# Altium footprint library Misc.DIP.PcbLib: 9 footprints
Each footprint in its own frame and in the unit in brackets; x right, y up, seen from the top. Pads: shape width x height; smd on the part's side, far side on the other; paste and mask are expansions set on the pad; w line width, h text height; cw(c..) or ccw(c..) is an arc to the next point about the centre after c.
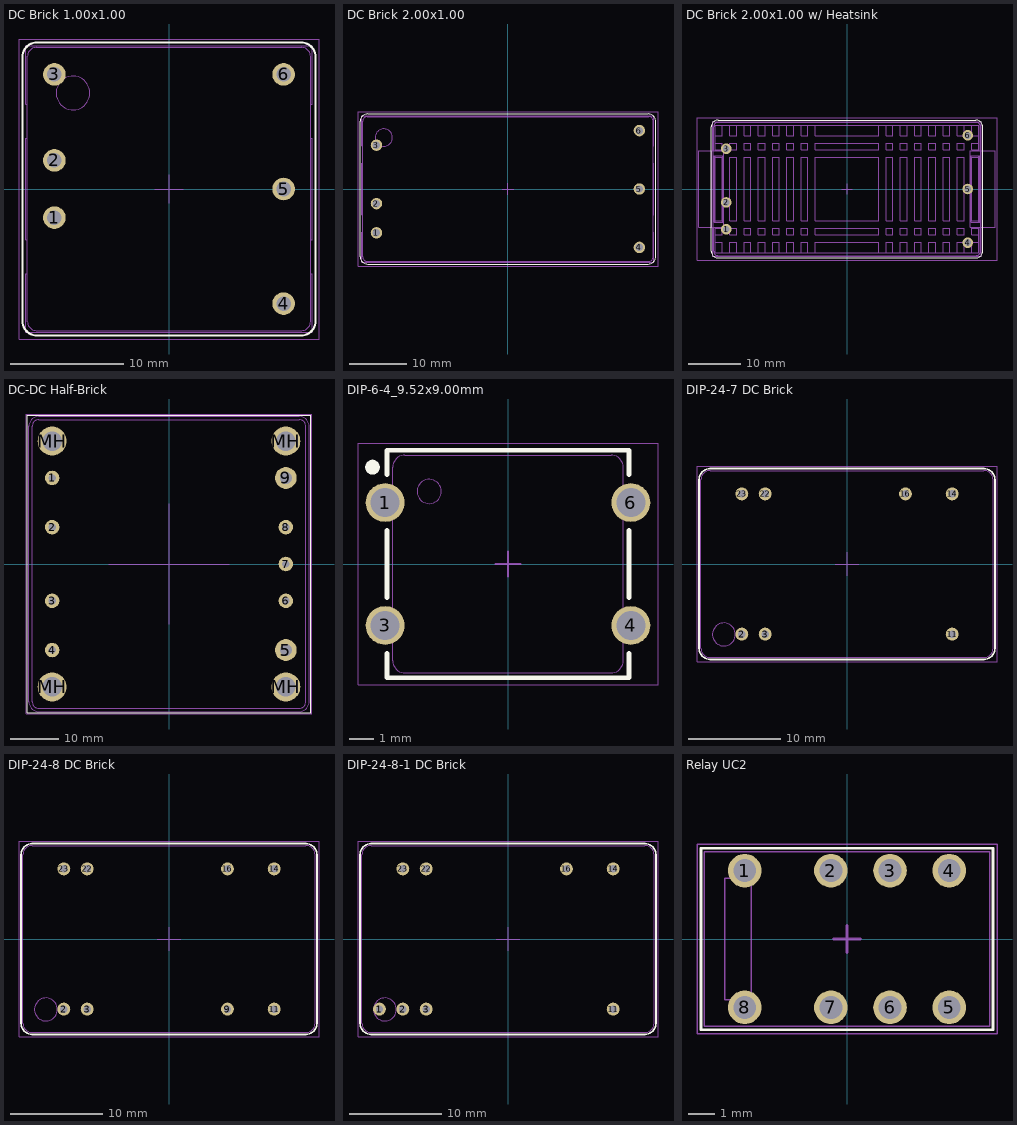
[diagram p0: the footprints below, top view; thin cyan lines are the x and y axes]

## DC Brick 1.00x1.00 [mm] "DC Brick, 25.4x25.4mm, 6-Leads"
height 9.9
pads (6):
  round 2 hole 1.3: 1(-10.16,-2.54) 2(-10.16,2.54) 3(-10.16,10.16) 4(10.16,-10.16) 5(10.16,0) 6(10.16,10.16)
Top Overlay:
  lines w0.2: -13,-11.7 ccw(c-11.7,-11.7) -11.7,-13 11.7,-13 ccw(c11.7,-11.7) 13,-11.7 13,11.7 ccw(c11.7,11.7) 11.7,13 -11.7,13 ccw(c-11.7,11.7) -13,11.7 -13,-11.7
Mechanical 1:
  circle w0.05: c-8.514,8.514 r1.5
  lines w0.05: -12.55,-7.5 -12.7,-7.5 -12.7,-12.7 12.7,-12.7 12.7,-7.5 12.55,-7.5 ; -12.55,-4.5 -12.7,-4.5 -12.7,4.5 -12.55,4.5 ; -12.55,7.5 -12.7,7.5 -12.7,12.7 12.7,12.7 12.7,7.5 12.55,7.5 ; 12.55,-4.5 12.7,-4.5 12.7,4.5 12.55,4.5 ; -12.55,-11.75 ccw(c-11.75,-11.75) -11.75,-12.55 11.75,-12.55 ccw(c11.75,-11.75) 12.55,-11.75 12.55,11.75 ccw(c11.75,11.75) 11.75,12.55 -11.75,12.55 ccw(c-11.75,11.75) -12.55,11.75 -12.55,-11.75
Mechanical 15:
  lines w0.05: -13.3,-13.3 -13.3,13.3 13.3,13.3 13.3,-13.3 -13.3,-13.3
  lines w0.1: -1.25,0 1.25,0 ; 0,-1.25 0,1.25
3D body "DC_Brick_1.00x1.00_6-Leads.STEP": height 9.9, standoff -5.6, extent -12.7,-12.7 12.7,12.7

## DC Brick 2.00x1.00 [mm] "DC Brick, 50.8x25.4mm, 6-Leads"
height 10.2
pads (6):
  round 2 hole 1.3: 1(-22.86,-7.62) 2(-22.86,-2.54) 3(-22.86,7.62) 4(22.86,-10.16) 5(22.86,0) 6(22.86,10.16)
Top Overlay:
  lines w0.2: -25.7,-11.75 ccw(c-24.4,-11.75) -24.4,-13.05 24.4,-13.05 ccw(c24.4,-11.75) 25.7,-11.75 25.7,11.75 ccw(c24.4,11.75) 24.4,13.05 -24.4,13.05 ccw(c-24.4,11.75) -25.7,11.75 -25.7,-11.75
Mechanical 1:
  circle w0.05: c-21.6,8.95 r1.5
  lines w0.05: -25.25,-7.5 -25.4,-7.5 -25.4,-12.7 25.4,-12.7 25.4,-7.5 25.25,-7.5 ; -25.25,-4.5 -25.4,-4.5 -25.4,4.5 -25.25,4.5 ; -25.25,7.5 -25.4,7.5 -25.4,12.7 25.4,12.7 25.4,7.5 25.25,7.5 ; 25.25,-4.5 25.4,-4.5 25.4,4.5 25.25,4.5 ; -25.25,-11.8 ccw(c-24.45,-11.8) -24.45,-12.6 24.45,-12.6 ccw(c24.45,-11.8) 25.25,-11.8 25.25,11.8 ccw(c24.45,11.8) 24.45,12.6 -24.45,12.6 ccw(c-24.45,11.8) -25.25,11.8 -25.25,-11.8
Mechanical 15:
  lines w0.05: -26.075,-13.45 26.1,-13.45 26.1,13.45 -26.075,13.45 -26.075,-13.45
  lines w0.1: -1,0 1,0 ; 0,-1 0,1
3D body "DC_Brick_2.00x1.00_6-Leads.STEP": height 10.2, standoff -5.6, extent -25.4,-12.7 25.4,12.7

## DC Brick 2.00x1.00 w/ Heatsink [mm] "DC Brick, 50.8x25.4mm, 6-Leads"
height 10.2
pads (6):
  round 2 hole 1.3: 1(-22.86,-7.62) 2(-22.86,-2.54) 3(-22.86,7.62) 4(22.86,-10.16) 5(22.86,0) 6(22.86,10.16)
Top Overlay:
  lines w0.2: -25.7,-11.75 ccw(c-24.4,-11.75) -24.4,-13.05 24.4,-13.05 ccw(c24.4,-11.75) 25.7,-11.75 25.7,11.75 ccw(c24.4,11.75) 24.4,13.05 -24.4,13.05 ccw(c-24.4,11.75) -25.7,11.75 -25.7,-11.75
Mechanical 1:
  drawing of 306 lines, arcs and shapes, not listed
Mechanical 15:
  lines w0.05: -28.4,-13.45 -28.4,13.45 28.4,13.45 28.4,-13.45 -28.4,-13.45
  lines w0.1: -1,0 1,0 ; 0,-1 0,1
3D body "DC_Brick_2.00x1.00_6-Leads_Heatsink.STEP": height 16.3, standoff -5.6, extent -28.096,-12.7 28.096,12.7

## DC-DC Half-Brick [mm] "DC Brick, 61.00x57.90mm, 9-Lead"
height 12.7
pads (13):
  round 3 hole 1.5: 1(-24.15,17.78) 2(-24.15,7.62) 3(-24.15,-7.62) 4(-24.15,-17.78) 6(24.15,-7.62) 7(24.15,0) 8(24.15,7.62)
  round 4.5 hole 2.5: 5(24.15,-17.78) 9(24.15,17.78)
  round 6 hole 4: MH(-24.15,-25.4) MH(-24.15,25.4) MH(24.15,-25.4) MH(24.15,25.4)
Top Overlay:
  lines w0.2: -29.25,-30.75 -29.25,30.75 29.25,30.75 29.25,-30.75 -29.25,-30.75
Mechanical 1:
  circle w0.05: c-24.15,-25.4 r1.25
  circle w0.05: c-24.15,-25.4 r1.75
  circle w0.05: c24.15,-25.4 r1.25
  circle w0.05: c24.15,-25.4 r1.75
  circle w0.05: c24.15,25.4 r1.25
  circle w0.05: c-24.15,25.4 r1.25
  circle w0.05: c24.15,25.4 r1.75
  circle w0.05: c-24.15,25.4 r1.75
  circle w0.05: c24.15,25.4 r2.125
  circle w0.05: c-24.15,25.4 r2.125
  circle w0.05: c-24.15,-25.4 r2.125
  circle w0.05: c24.15,-25.4 r2.125
  lines w0.05: -28.95,-28.5 ccw(c-26.95,-28.5) -26.95,-30.5 26.95,-30.5 ccw(c26.95,-28.5) 28.95,-28.5 28.95,28.5 ccw(c26.95,28.5) 26.95,30.5 -26.95,30.5 ccw(c-26.95,28.5) -28.95,28.5 -28.95,-28.5 ; -28.25,-28.5 ccw(c-26.95,-28.5) -26.95,-29.8 26.95,-29.8 ccw(c26.95,-28.5) 28.25,-28.5 28.25,28.5 ccw(c26.95,28.5) 26.95,29.8 -26.95,29.8 ccw(c-26.95,28.5) -28.25,28.5 -28.25,-28.5
Mechanical 15:
  lines w0.05: -29.5,-31 29.5,-31 29.5,31 -29.5,31 -29.5,-31
  lines w0.2: -12.5,0 12.5,0 ; 0,-12.5 0,12.5
3D body "DC_Half-Brick.STEP": height 12.7, standoff -5, extent -28.95,-30.5 28.95,30.5

## DIP-6-4_9.52x9.00mm [mm] "DIP-6-4 Package, 9.52x9.00mm Body, 2.54mm Pitch, 4-Lead"
height 6.35
pads (4):
  round 1.6 hole 1.2: 1(-5.08,2.54) 3(-5.08,-2.54) 4(5.08,-2.54) 6(5.08,2.54)
Top Overlay:
  region: -5.6,4.3 -5.63,4.3 -5.687,4.288 -5.742,4.266 -5.791,4.233 -5.833,4.191 -5.866,4.142 -5.888,4.088 -5.9,4.03 -5.9,3.97 -5.888,3.912 -5.866,3.858 -5.833,3.809 -5.791,3.767 -5.742,3.734 -5.687,3.712 -5.63,3.7 -5.6,3.7 -5.57,3.7 -5.512,3.712 -5.458,3.734 -5.409,3.767 -5.367,3.809 -5.334,3.858 -5.312,3.912 -5.3,3.97 -5.3,4.03 -5.312,4.088 -5.334,4.142 -5.367,4.191 -5.409,4.233 -5.458,4.266 -5.512,4.288 -5.57,4.3
  lines w0.2: -5,-3.7 -5,-4.7 5,-4.7 5,-3.7 ; -5,-1.38 -5,1.38 ; -5,3.7 -5,4.7 5,4.7 5,3.7 ; 5,-1.38 5,1.38
Mechanical 1:
  circle w0.05: c-3.26,3 r0.5
  lines w0.05: -4.76,-2.83 -5.212,-2.83 -5.212,-2.25 -4.76,-2.25 ; -4.76,2.25 -5.212,2.25 -5.212,2.83 -4.76,2.83 ; 4.76,-2.83 5.212,-2.83 5.212,-2.25 4.76,-2.25 ; 4.76,2.25 5.212,2.25 5.212,2.83 4.76,2.83 ; -4.76,-4 ccw(c-4.26,-4) -4.26,-4.5 4.26,-4.5 ccw(c4.26,-4) 4.76,-4 4.76,4 ccw(c4.26,4) 4.26,4.5 -4.26,4.5 ccw(c-4.26,4) -4.76,4 -4.76,-4
Mechanical 15:
  lines w0.05: -6.2,-5 -6.2,5 6.2,5 6.2,-5 -6.2,-5
  lines w0.1: -0.5,0 0.5,0 ; 0,-0.5 0,0.5
3D body "mps_mag_DA100_thd_a.STEP": height 6.35, standoff -3.44, extent -5.212,-4.5 5.212,4.5

## DIP-24-7 DC Brick [mm] "DC Brick, DIP-24 Package, 31.75x20.32mm, 7-Leads, 2.54mm Ptich"
height 10.16
pads (7):
  round 1.4 hole 0.8: 2(-11.43,-7.62) 3(-8.89,-7.62) 11(11.43,-7.62) 14(11.43,7.62) 16(6.35,7.62) 22(-8.89,7.62) 23(-11.43,7.62)
Top Overlay:
  lines w0.2: -16.075,-9.16 ccw(c-14.875,-9.16) -14.875,-10.36 14.875,-10.36 ccw(c14.875,-9.16) 16.075,-9.16 16.075,9.16 ccw(c14.875,9.16) 14.875,10.36 -14.875,10.36 ccw(c-14.875,9.16) -16.075,9.16 -16.075,-9.16
Mechanical 1:
  circle w0.05: c-13.375,-7.66 r1.25
  lines w0.05: -15.875,-9.16 ccw(c-14.875,-9.16) -14.875,-10.16 14.875,-10.16 ccw(c14.875,-9.16) 15.875,-9.16 15.875,9.16 ccw(c14.875,9.16) 14.875,10.16 -14.875,10.16 ccw(c-14.875,9.16) -15.875,9.16 -15.875,-9.16
Mechanical 15:
  lines w0.05: -16.3,-10.6 16.3,-10.6 16.3,10.6 -16.3,10.6 -16.3,-10.6
  lines w0.1: -1.25,0 1.25,0 ; 0,-1.25 0,1.25
3D body "DC_BRICK_31.75x20.32mm_7-Leads_2.54mm_Pitch.STEP": height 10.16, standoff -2.86, extent -15.875,-10.16 15.875,10.16

## DIP-24-8 DC Brick [mm] "TEN 5 Series Dual DC/DC Converter"
height 10.2
pads (8):
  round 1.4 hole 0.8: 2(-11.43,-7.62) 3(-8.89,-7.62) 9(6.35,-7.62) 11(11.43,-7.62) 14(11.43,7.62) 16(6.35,7.62) 22(-8.89,7.62) 23(-11.43,7.62)
Top Overlay:
  lines w0.2: -16.075,-9.16 ccw(c-14.875,-9.16) -14.875,-10.36 14.875,-10.36 ccw(c14.875,-9.16) 16.075,-9.16 16.075,9.16 ccw(c14.875,9.16) 14.875,10.36 -14.875,10.36 ccw(c-14.875,9.16) -16.075,9.16 -16.075,-9.16
Mechanical 1:
  circle w0.05: c-13.375,-7.66 r1.25
  lines w0.05: -15.875,-9.16 ccw(c-14.875,-9.16) -14.875,-10.16 14.875,-10.16 ccw(c14.875,-9.16) 15.875,-9.16 15.875,9.16 ccw(c14.875,9.16) 14.875,10.16 -14.875,10.16 ccw(c-14.875,9.16) -15.875,9.16 -15.875,-9.16
Mechanical 15:
  lines w0.05: -16.3,-10.6 -16.3,10.6 16.3,10.6 16.3,-10.6 -16.3,-10.6
  lines w0.1: -1.25,0 1.25,0 ; 0,-1.25 0,1.25
3D body "DC_BRICK_31.75x20.32mm_8-Leads_2.54mm_Pitch.STEP": height 10.16, standoff -2.86, extent -15.875,-10.16 15.875,10.16

## DIP-24-8-1 DC Brick [mm] "DC Brick, DIP-24 Package, 31.75x20.32mm, 8-Leads, 2.54mm Ptich"
height 10.16
pads (8):
  round 1.4 hole 0.8: 1(-13.97,-7.62) 2(-11.43,-7.62) 3(-8.89,-7.62) 11(11.43,-7.62) 14(11.43,7.62) 16(6.35,7.62) 22(-8.89,7.62) 23(-11.43,7.62)
Top Overlay:
  lines w0.2: -16.075,-9.16 ccw(c-14.875,-9.16) -14.875,-10.36 14.875,-10.36 ccw(c14.875,-9.16) 16.075,-9.16 16.075,9.16 ccw(c14.875,9.16) 14.875,10.36 -14.875,10.36 ccw(c-14.875,9.16) -16.075,9.16 -16.075,-9.16
Mechanical 1:
  circle w0.05: c-13.375,-7.66 r1.25
  lines w0.05: -15.875,-9.16 ccw(c-14.875,-9.16) -14.875,-10.16 14.875,-10.16 ccw(c14.875,-9.16) 15.875,-9.16 15.875,9.16 ccw(c14.875,9.16) 14.875,10.16 -14.875,10.16 ccw(c-14.875,9.16) -15.875,9.16 -15.875,-9.16
Mechanical 15:
  lines w0.05: -16.3,-10.6 16.3,-10.6 16.3,10.6 -16.3,10.6 -16.3,-10.6
  lines w0.1: -1.25,0 1.25,0 ; 0,-1.25 0,1.25
3D body "DC_BRICK_31.75x20.32mm_8-Leads-w1_2.54mm_Pitch.STEP": height 10.16, standoff -2.86, extent -15.875,-10.16 15.875,10.16

## Relay UC2 [mm] "UC2 Type Relay, 10.60x6.50mm, 8-Leads"
height 5.3
pads (8):
  round 1.25 hole 0.85: 1(-3.8,2.54) 2(-0.6,2.54) 3(1.6,2.54) 4(3.8,2.54) 5(3.8,-2.54) 6(1.6,-2.54) 7(-0.6,-2.54) 8(-3.8,-2.54)
Top Overlay:
  lines w0.1: -5.425,-3.375 5.425,-3.375 5.425,3.375 -5.425,3.375 -5.425,-3.375
Mechanical 1:
  lines w0.05: -5.3,-3.25 -5.3,3.25 5.3,3.25 5.3,-3.25 -5.3,-3.25 ; -4.55,-2.25 -4.55,2.25 -3.55,2.25 -3.55,-2.25 -4.55,-2.25
Mechanical 15:
  lines w0.05: -5.575,-3.525 5.575,-3.525 5.575,3.525 -5.575,3.525 -5.575,-3.525
  lines w0.1: -0.5,0 0.5,0 ; 0,-0.5 0,0.5
3D body "Relay_UC2.STEP": height 5.3, standoff -2.8, extent -5.3,-3.25 5.3,3.25